# EAGLE library part 10029449-001RLF (library 10029449-001RLF)
Conn; Data; HDMI; Jack; TypeA; 90Deg; PartialSMT(ThruHoleForShellPeg); 19Cnts; w/oFlange
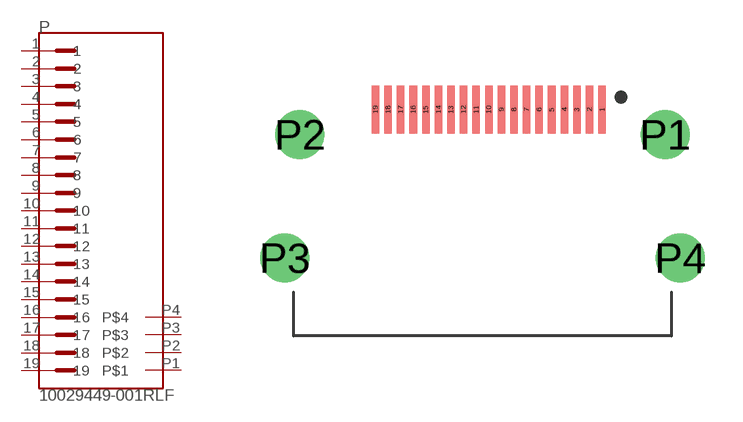
[diagram p0: symbol with the pads of FCI_10029449-001RLF; footprint FCI_10029449-001RLF]

Designator prefix P

## 10029449-001RLF (AVAILABILITY: Unavailable; DESCRIPTION: Connectors, Connectors and Adapters; MF: Amphenol FCI; MP: 10029449-001RLF; PACKAGE: None; PRICE: None)  [FCI_10029449-001RLF]
1  1  pas
2  2  pas
3  3  pas
4  4  pas
5  5  pas
6  6  pas
7  7  pas
8  8  pas
9  9  pas
10  10  pas
11  11  pas
12  12  pas
13  13  pas
14  14  pas
15  15  pas
16  16  pas
17  17  pas
18  18  pas
19  19  pas
P1  P$1
P2  P$2
P3  P$3
P4  P$4

## Footprint FCI_10029449-001RLF (pad centres in mm)
smd 0.3 x 1.9: 1 4.75,0; 2 4.25,0; 3 3.75,0; 4 3.25,0; 5 2.75,0; 6 2.25,0; 7 1.75,0; 8 1.25,0; 9 0.75,0; 10 0.25,0; 11 -0.25,0; 12 -0.75,0; 13 -1.25,0; 14 -1.75,0; 15 -2.25,0; 16 -2.75,0; 17 -3.25,0; 18 -3.75,0; 19 -4.25,0
drill 1.3: P1 7.25,-1; P2 -7.25,-1; P3 -7.85,-5.9; P4 7.85,-5.9